# Altium integrated library WE-PD2HV_rev15a.intlib: 9 symbols
Pins are listed as number, name and electrical type; pins without a type are passive.

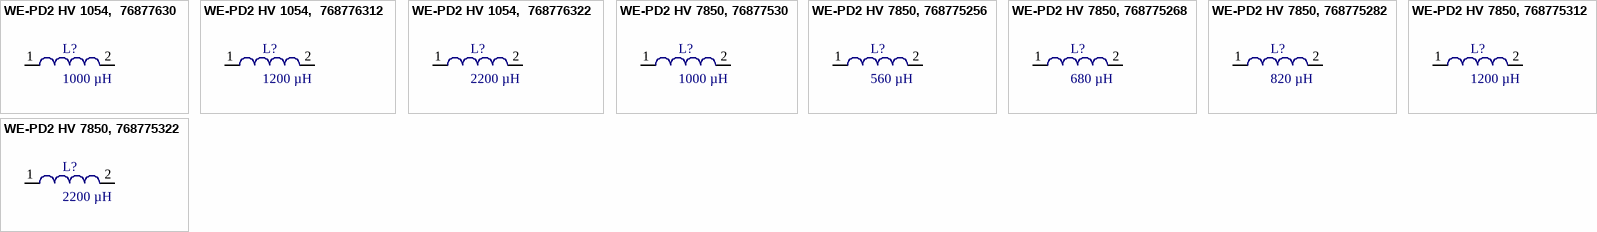
[diagram p0: symbols WE-PD2 HV 1054,  76877630 to WE-PD2 HV 7850, 768775322]

## WE-PD2 HV 1054,  76877630
designator L?, comment 1000 µH
SMD Power Inductor WE-PD2 HV, L=1000 µH; PartNo: 76877630; Manufacturer: Würth Elektronik eiSos GmbH; Inductance: 1000 µH; ComponentLink1Description: Manufacturer; ComponentLink1URL: http://www.we-online.de; Created by: Christin Otto; Created Date: DEC-2013; ComponentLink2Description: Datasheet; ComponentLink2URL: http://www.we-online.de/katalog/media/pdf/76877630.pdf
footprint 1054 (Precision Wire Wound Inductor, 2-Leads, Body 10.0x9.0mm, IPC Medium Density)
pins: 1, 2

## WE-PD2 HV 1054,  768776312
designator L?, comment 1200 µH
SMD Power Inductor WE-PD2 HV, L=1200 µH; PartNo: 768776312; Manufacturer: Würth Elektronik eiSos GmbH; Inductance: 1200 µH; ComponentLink1Description: Manufacturer; ComponentLink1URL: http://www.we-online.de; Created by: Christin Otto; Created Date: DEC-2013; ComponentLink2Description: Datasheet; ComponentLink2URL: http://www.we-online.de/katalog/media/pdf/768776312.pdf
footprint 1054 (Precision Wire Wound Inductor, 2-Leads, Body 10.0x9.0mm, IPC Medium Density)
pins: 1, 2

## WE-PD2 HV 1054,  768776322
designator L?, comment 2200 µH
SMD Power Inductor WE-PD2 HV, L=2200 µH; PartNo: 768776322; Manufacturer: Würth Elektronik eiSos GmbH; Inductance: 2200 µH; ComponentLink1Description: Manufacturer; ComponentLink1URL: http://www.we-online.de; Created by: Christin Otto; Created Date: DEC-2013; ComponentLink2Description: Datasheet; ComponentLink2URL: http://www.we-online.de/katalog/media/pdf/768776322.pdf
footprint 1054 (Precision Wire Wound Inductor, 2-Leads, Body 10.0x9.0mm, IPC Medium Density)
pins: 1, 2

## WE-PD2 HV 7850, 76877530
designator L?, comment 1000 µH
SMD Power Inductor WE-PD2 HV, L=1000 µH; PartNo: 76877530; Manufacturer: Würth Elektronik eiSos GmbH; Inductance: 1000 µH; ComponentLink1Description: Manufacturer; ComponentLink1URL: http://www.we-online.de; Created by: Christin Otto; Created Date: DEC-2013; ComponentLink2Description: Datasheet; ComponentLink2URL: http://www.we-online.de/katalog/media/pdf/76877530.pdf
footprint 7850 (Precision Wire Wound Inductor, 2-Leads, Body 7.8x7.0mm, IPC Medium Density)
pins: 1, 2

## WE-PD2 HV 7850, 768775256
designator L?, comment 560 µH
SMD Power Inductor WE-PD2 HV, L=560 µH; PartNo: 768775256; Manufacturer: Würth Elektronik eiSos GmbH; Inductance: 560 µH; ComponentLink1Description: Manufacturer; ComponentLink1URL: http://www.we-online.de; Created by: Christin Otto; Created Date: DEC-2013; ComponentLink2Description: Datasheet; ComponentLink2URL: http://www.we-online.de/katalog/media/pdf/768775256.pdf
footprint 7850 (Precision Wire Wound Inductor, 2-Leads, Body 7.8x7.0mm, IPC Medium Density)
pins: 1, 2

## WE-PD2 HV 7850, 768775268
designator L?, comment 680 µH
SMD Power Inductor WE-PD2 HV, L=680 µH; PartNo: 768775268; Manufacturer: Würth Elektronik eiSos GmbH; Inductance: 680 µH; ComponentLink1Description: Manufacturer; ComponentLink1URL: http://www.we-online.de; Created by: Christin Otto; Created Date: DEC-2013; ComponentLink2Description: Datasheet; ComponentLink2URL: http://www.we-online.de/katalog/media/pdf/768775268.pdf
footprint 7850 (Precision Wire Wound Inductor, 2-Leads, Body 7.8x7.0mm, IPC Medium Density)
pins: 1, 2

## WE-PD2 HV 7850, 768775282
designator L?, comment 820 µH
SMD Power Inductor WE-PD2 HV, L=820 µH; PartNo: 768775282; Manufacturer: Würth Elektronik eiSos GmbH; Inductance: 820 µH; ComponentLink1Description: Manufacturer; ComponentLink1URL: http://www.we-online.de; Created by: Christin Otto; Created Date: DEC-2013; ComponentLink2Description: Datasheet; ComponentLink2URL: http://www.we-online.de/katalog/media/pdf/768775282.pdf
footprint 7850 (Precision Wire Wound Inductor, 2-Leads, Body 7.8x7.0mm, IPC Medium Density)
pins: 1, 2

## WE-PD2 HV 7850, 768775312
designator L?, comment 1200 µH
SMD Power Inductor WE-PD2 HV, L=1200 µH; PartNo: 768775312; Manufacturer: Würth Elektronik eiSos GmbH; Inductance: 1200 µH; ComponentLink1Description: Manufacturer; ComponentLink1URL: http://www.we-online.de; Created by: Christin Otto; Created Date: DEC-2013; ComponentLink2Description: Datasheet; ComponentLink2URL: http://www.we-online.de/katalog/media/pdf/768775312.pdf
footprint 7850 (Precision Wire Wound Inductor, 2-Leads, Body 7.8x7.0mm, IPC Medium Density)
pins: 1, 2

## WE-PD2 HV 7850, 768775322
designator L?, comment 2200 µH
SMD Power Inductor WE-PD2 HV, L=2200 µH; PartNo: 768775322; Manufacturer: Würth Elektronik eiSos GmbH; Inductance: 2200 µH; ComponentLink1Description: Manufacturer; ComponentLink1URL: http://www.we-online.de; Created by: Christin Otto; Created Date: DEC-2013; ComponentLink2Description: Datasheet; ComponentLink2URL: http://www.we-online.de/katalog/media/pdf/768775322.pdf
footprint 7850 (Precision Wire Wound Inductor, 2-Leads, Body 7.8x7.0mm, IPC Medium Density)
pins: 1, 2